# Altium footprint library SMD_3025_Crystal_Oscillator.PcbLib: 1 footprints
Each footprint in its own frame and in the unit in brackets; x right, y up, seen from the top. Pads: shape width x height; smd on the part's side, far side on the other; paste and mask are expansions set on the pad; w line width, h text height; cw(c..) or ccw(c..) is an arc to the next point about the centre after c.
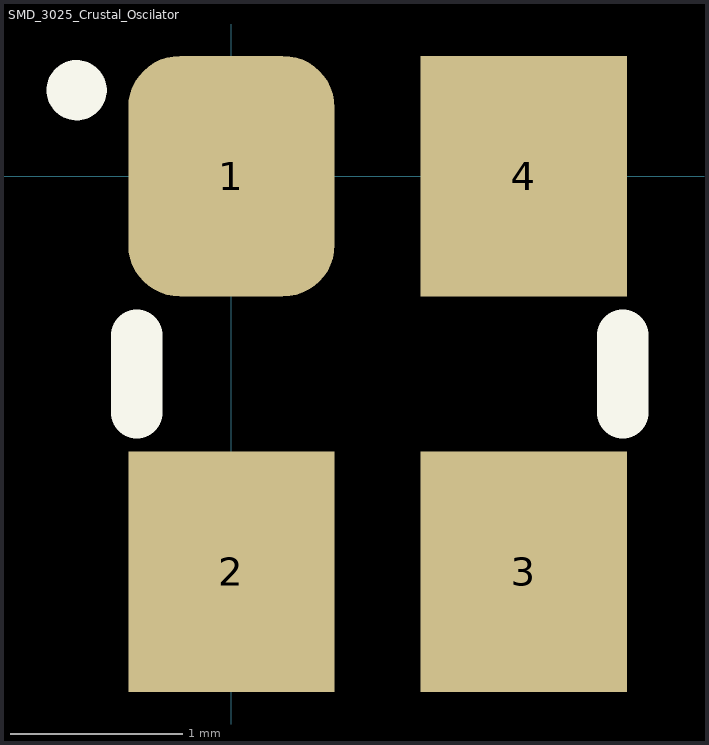
[diagram p0: the footprint, top view; thin cyan lines are the x and y axes]

## SMD_3025_Crustal_Oscilator [mm]
pads (4):
  rrect50% 1.2x1.4 smd: 1(0,0)
  rect 1.2x1.4 smd: 2(0,-2.3) 3(1.7,-2.3) 4(1.7,0)
Top Overlay:
  circle w0.2: c-0.9,0.5 r0.075
  lines w0.3: -0.55,-1.375 -0.55,-0.925 ; 2.275,-1.375 2.275,-0.925
3D body "SMD_3025_Crystal_Oscillator.step": height 1.2, standoff 0, extent -0.4,-2.75 2.1,0.45